# Altium schematic symbol library Switch-Encoder.SchLib: 4 symbols
Pins are listed as number, name and electrical type; pins without a type are passive.

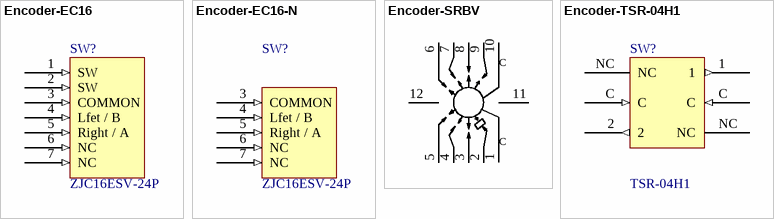
[diagram p0: symbols Encoder-EC16 to Encoder-TSR-04H1]

## Encoder-EC16
designator SW?, comment ZJC16ESV-24P
旋转编码器 带按钮; Manufacturer_Name: ZJC（中捷创）; Manufacturer_Part_Number: ZJC16ESV-24P-24C
footprint ENCODER PEC16-4X15F (Encoder PEC16-4215F 螺杆长度15mm)
footprint ENCODER PEC16-4X20F (Encoder PEC16-4220F-S0024 螺杆长度20mm)
footprint ENCODER PEC16-2X15F-SXXX (Encoder PEC16-2X15F-SXXX)
footprint ENCODER PEC16-4X20F-N (Encoder PEC16-4220F-S0024 螺杆长度20mm)
pins: 1 SW (in), 2 SW (in), 3 COMMON (in), 4 Lfet / B (in), 5 Right / A (in), 6 NC (in), 7 NC (in)

## Encoder-EC16-N
designator SW?, comment ZJC16ESV-24P
旋转编码器 不带按钮; Manufacturer_Name: BOURNS; Manufacturer_Part_Number: PEC16-4120F-N0012; LCSC: C143807
footprint ENCODER PEC16-4X15F-NXXX (Encoder PEC16-4215F-S0024 螺杆长度15mm)
footprint ENCODER PEC16-4X20F-NXXX (Encoder PEC16-4220F-S0024 螺杆长度20mm)
pins: 3 COMMON (in), 4 Lfet / B (in), 5 Right / A (in), 6 NC (in), 7 NC (in)

## Encoder-SRBV
designator SW?, comment ZJC17-6-15F  (value not drawn)
旋转开关; Manufacturer_Name: 中精电子; Manufacturer_Name_1: ALPSALPINE(阿尔卑斯阿尔派); Manufacturer_Part_Number_1: SRBV160803; Manufacturer_Part_Number: ZJC17-6-15F
footprint ENCODER  SRBV_L15 (ALPSALPINE(阿尔卑斯阿尔派)  SRBV160803)
footprint ENCODER  SRBV_L20 (ALPSALPINE(阿尔卑斯阿尔派)  SRBV160803)
pins: 1, 2, 3, 4, 5, 6, 7, 8, 9, 10, 11, 12
text: C

## Encoder-TSR-04H1
designator SW?, comment TSR-04H1
旋转编码器 4档 侧插; Manufacturer_Name: SUNGMUN(韩国星炆电子); Manufacturer_Part_Number: TSR-04H1; LCSC: C697448
footprint ENCODER  TSR-10-04H1 (旋转编码器 4裆)
pins: 1 (out), 2 (out), C (in), C (in), NC, NC